# EAGLE library part 613012243121 (library Wuerth_Elektronik_eiCan_Pin_&_Socked_Headers_v1.3)
WR-PHD Angled Dual Socket Header, 12 Pins
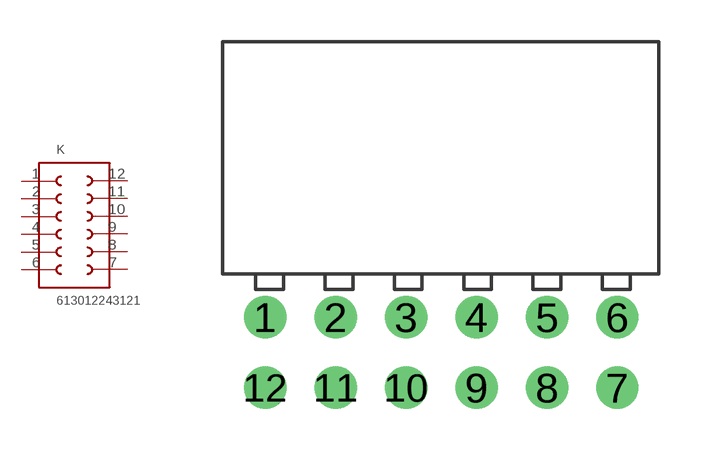
[diagram p169: symbol with the pads of 613012243121; footprint 613012243121]

Designator prefix K

## 613012243121  [613012243121]
1  1  pas
2  2  pas
3  3  pas
4  4  pas
5  5  pas
6  6  pas
7  7  pas
8  8  pas
9  9  pas
10  10  pas
11  11  pas
12  12  pas

## Footprint 613012243121 (pad centres in mm)
WR-PHD Angled Dual Socket Header, 12 Pins
drill 1.02 round: 1 -10.16,0; 2 -7.62,0; 3 -5.08,0; 4 -2.54,0; 5 0,0; 6 2.54,0; 7 2.54,-2.54; 8 0,-2.54; 9 -2.54,-2.54; 10 -5.08,-2.54; 11 -7.62,-2.54; 12 -10.16,-2.54